# EAGLE library part CN3791 (library pimoroni-ics)
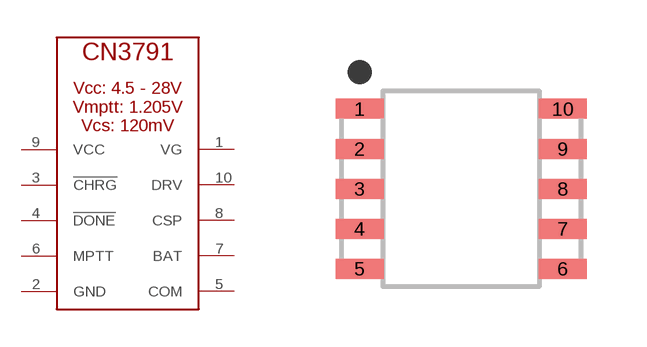
[diagram p170: symbol with the pads of SSOP-10-1MM; footprint SSOP-10-1MM]

Designator prefix U

## CN3791  [SSOP-10-1MM]
1  VG
2  GND
3  !CHRG
4  !DONE
5  COM
6  MPTT
7  BAT
8  CSP
9  VCC
10  DRV

## Footprint SSOP-10-1MM (pad centres in mm)
smd 1.2 x 0.5: 1 -2.54,2; 2 -2.54,1; 3 -2.54,0; 4 -2.54,-1; 5 -2.54,-2; 6 2.54,-2; 7 2.54,-1; 8 2.54,0; 9 2.54,1; 10 2.54,2